# Altium footprint library COMBINED_PCB_LIB.PcbLib: 30 footprints (part 1 of 2)
Each footprint in its own frame and in the unit in brackets; x right, y up, seen from the top. Pads: shape width x height; smd on the part's side, far side on the other; paste and mask are expansions set on the pad; w line width, h text height; cw(c..) or ccw(c..) is an arc to the next point about the centre after c.
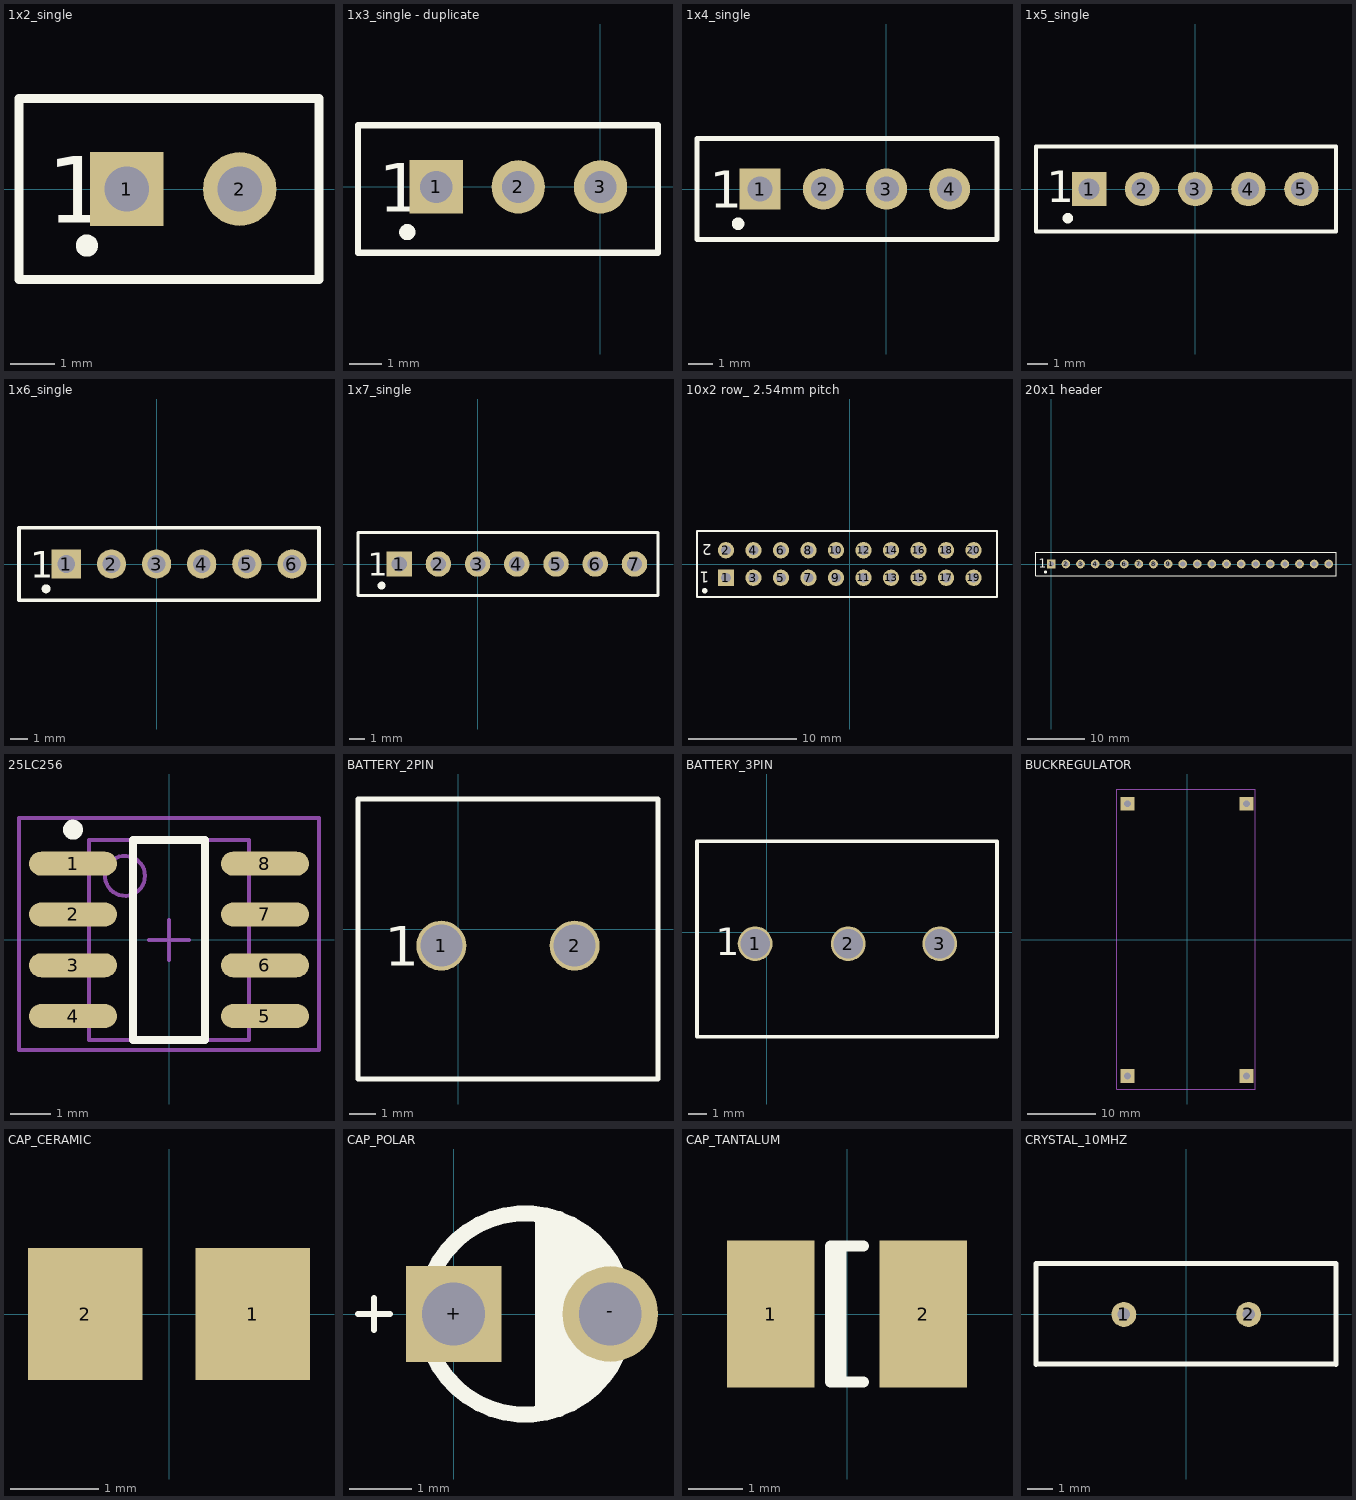
[diagram p0: the footprints below, top view; thin cyan lines are the x and y axes]

## 1x2_single [mm] "Connector; IDC, Low Profile Male Header, Thru-Hole; 10 Position; Vertical; Pitch 2.54 mm; Body 20.32 x 9.2 x 9.45 mm (LxWxH)"
height 9.45
pads (2):
  rect 1.65x1.65 hole 1: 1(-5.08,0)
  round 1.65 hole 1: 2(-2.54,0)
Top Overlay:
  circle w0.25: c-5.969,-1.27 r0.125
  lines w0.2: -7.493,-2.032 -0.762,-2.032 -0.762,2.032 -7.493,2.032 ; -7.493,-2 -7.493,2
  text "1" at -6.858,-0.762 h1.5

## 1x3_single - duplicate [mm] "Connector; IDC, Low Profile Male Header, Thru-Hole; 10 Position; Vertical; Pitch 2.54 mm; Body 20.32 x 9.2 x 9.45 mm (LxWxH)"
height 9.45
pads (3):
  rect 1.65x1.65 hole 1: 1(-5.08,0)
  round 1.65 hole 1: 2(-2.54,0) 3(0,0)
Top Overlay:
  circle w0.25: c-5.969,-1.397 r0.125
  lines w0.2: -7.493,-2.032 1.778,-2.032 ; -7.493,-2 -7.493,1.905 1.778,1.905 1.778,-2
  text "1" at -6.858,-0.762 h1.5

## 1x4_single [mm] "Connector; IDC, Low Profile Male Header, Thru-Hole; 10 Position; Vertical; Pitch 2.54 mm; Body 20.32 x 9.2 x 9.45 mm (LxWxH)"
height 9.45
pads (4):
  rect 1.65x1.65 hole 1: 1(-5.08,0)
  round 1.65 hole 1: 2(-2.54,0) 3(0,0) 4(2.54,0)
Top Overlay:
  circle w0.25: c-5.969,-1.397 r0.127
  lines w0.2: -7.62,-2.032 4.445,-2.032 4.445,2.032 -7.62,2.032 ; -7.62,-2 -7.62,2
  text "1" at -7.112,-0.762 h1.5

## 1x5_single [mm] "Connector; IDC, Low Profile Male Header, Thru-Hole; 10 Position; Vertical; Pitch 2.54 mm; Body 20.32 x 9.2 x 9.45 mm (LxWxH)"
height 9.45
pads (5):
  rect 1.65x1.65 hole 1: 1(-5.08,0)
  round 1.65 hole 1: 2(-2.54,0) 3(0,0) 4(2.54,0) 5(5.08,0)
Top Overlay:
  circle w0.25: c-6.096,-1.397 r0.125
  lines w0.2: -7.62,-2.032 6.731,-2.032 6.731,2.032 -7.62,2.032 ; -7.62,-2 -7.62,2
  text "1" at -7.112,-0.635 h1.5

## 1x6_single [mm] "Connector; IDC, Low Profile Male Header, Thru-Hole; 10 Position; Vertical; Pitch 2.54 mm; Body 20.32 x 9.2 x 9.45 mm (LxWxH)"
height 9.45
pads (6):
  rect 1.65x1.65 hole 1: 1(-5.08,0)
  round 1.65 hole 1: 2(-2.54,0) 3(0,0) 4(2.54,0) 5(5.08,0) 6(7.62,0)
Top Overlay:
  circle w0.25: c-6.223,-1.397 r0.127
  lines w0.2: -7.747,-2.032 9.144,-2.032 9.144,2.032 -7.747,2.032 ; -7.747,-2 -7.747,2
  text "1" at -7.112,-0.762 h1.5

## 1x7_single [mm] "Connector; IDC, Low Profile Male Header, Thru-Hole; 10 Position; Vertical; Pitch 2.54 mm; Body 20.32 x 9.2 x 9.45 mm (LxWxH)"
height 9.45
pads (7):
  rect 1.65x1.65 hole 1: 1(-5.08,0)
  round 1.65 hole 1: 2(-2.54,0) 3(0,0) 4(2.54,0) 5(5.08,0) 6(7.62,0) 7(10.16,0)
Top Overlay:
  circle w0.25: c-6.223,-1.397 r0.127
  lines w0.2: -7.747,-2.032 11.684,-2.032 11.684,2.032 -7.747,2.032 ; -7.747,-2 -7.747,2
  text "1" at -7.112,-0.762 h1.5

## 10x2 row_ 2.54mm pitch [mm] "Connector; IDC, PCB Transition - 2 Rows, Thru-Hole; 34 Position; Vertical; Pitch 2.54 mm; dual row"
height 7.45
pads (20):
  rect 1.5x1.5 hole 0.9: 1(-11.43,-1.27)
  round 1.5 hole 0.9: 2(-11.43,1.27) 3(-8.89,-1.27) 4(-8.89,1.27) 5(-6.35,-1.27) 6(-6.35,1.27) 7(-3.81,-1.27) 8(-3.81,1.27) 9(-1.27,-1.27) 10(-1.27,1.27) 11(1.27,-1.27) 12(1.27,1.27) 13(3.81,-1.27) 14(3.81,1.27) 15(6.35,-1.27) 16(6.35,1.27) 17(8.89,-1.27) 18(8.89,1.27) 19(11.43,-1.27) 20(11.43,1.27)
Top Overlay:
  circle w0.25: c-13.386,-2.464 r0.125
  lines w0.2: -14.097,-3.05 13.589,-3.05 13.589,3.05 -14.097,3.05 -14.097,-3.05
  text "1" at -12.979,-0.737 h1
  text "2" at -12.751,1.829 h1

## 20x1 header [mm] "Connector; Header; 20 Position"
pads (20):
  rect 1.5x1.5 hole 0.9: 1(0,0)
  round 1.5 hole 0.9: 2(2.54,0) 3(5.08,0) 4(7.62,0) 5(10.16,0) 6(12.7,0) 7(15.24,0) 8(17.78,0) 9(20.32,0) 10(22.86,0) 11(25.4,0) 12(27.94,0) 13(30.48,0) 14(33.02,0) 15(35.56,0) 16(38.1,0) 17(40.64,0) 18(43.18,0) 19(45.72,0) 20(48.26,0)
Top Overlay:
  circle w0.254: c-1.016,-1.397 r0.127
  lines w0.2: 49.53,-2.032 -2.667,-2.032 -2.667,2.032 49.53,2.032 ; 49.53,-2 49.53,2
  text "1" at -2.159,-0.635 h1.5

## 25LC256 [mm] "SOIC, 8-Leads, Body 4.9x3.8mm, Pitch 1.27mm, IPC Medium Density"
height 1.75
pads (8):
  oval 2.2x0.6 smd: 1(-2.4,1.905) 2(-2.4,0.635) 3(-2.4,-0.635) 4(-2.4,-1.905) 5(2.4,-1.905) 6(2.4,-0.635) 7(2.4,0.635) 8(2.4,1.905)
Top Overlay:
  circle w0.25: c-2.4,2.755 r0.125
  lines w0.2: -0.9,-2.5 0.9,-2.5 0.9,2.5 -0.9,2.5 -0.9,-2.5
Mechanical 13:
  circle w0.1: c-1.1,1.6 r0.5
  lines w0.1: -2,-2.5 2,-2.5 2,2.5 -2,2.5 -2,-2.5
Mechanical 15:
  lines w0.1: -0.5,0 0.5,0 ; 0,-0.5 0,0.5 ; -3.75,-2.75 3.75,-2.75 3.75,3.048 -3.75,3.048 -3.75,-2.75
3D body: height 1.75, standoff 0, extent -2,-2.5 2,2.5

## BATTERY_2PIN [mm] "Through Hole Power Connector 5.54X6.5 _ 6A"
height 19
pads (2):
  round 1.9 hole 1.6: 1(-0.635,-0.635) 2(4.445,-0.635)
Top Overlay:
  lines w0.2: -3.81,-5.715 -3.81,4.953 7.62,4.953 7.62,-5.715 -3.81,-5.715
  text "1" at -2.794,-1.397 h1.5

## BATTERY_3PIN [mm] "Through Hole Power Connector 5.54X6.5 _ 6A"
height 19
pads (3):
  round 1.9 hole 1.6: 1(-0.635,-0.635) 2(4.445,-0.635) 3(9.449,-0.635)
Top Overlay:
  lines w0.2: -3.81,-5.715 12.573,-5.715 12.573,4.953 -3.81,4.953 -3.81,-5.715
  text "1" at -2.794,-1.27 h1.5

## BUCKREGULATOR [mm] "43mm length,20 mm width"
height 0.9
pads (4):
  rect 2.008x2.008 hole 1: Vin+(8.65,19.825) Vin-(-8.65,19.825) Vout+(8.65,-19.825) Vout-(-8.65,-19.825)
Mechanical 1:
  lines w0.114: 9.906,-21.715 -10.243,-21.715 -10.243,21.971 9.906,21.971 ; 9.95,-21.715 9.95,21.971
3D body: height 5, standoff 0, extent -10.243,-21.715 9.95,21.971

## CAP_CERAMIC [mm] "Chip Capacitor; Body 2.0 x 1.2 mm (LxW typ)"
height 1.3
pads (2):
  rect 1.3x1.5 smd: 1(0.95,0) 2(-0.95,0)

## CAP_POLAR [mil] "1uF"
pads (2):
  rect 60x60 hole 39.37: +(0,0)
  round 60 hole 39.37: -(98.43,0)
Top Overlay:
  circle w10: c45,0 r63.25
  rectangle: 75,-35 95,45
  rectangle: 60,-55 80,55
  lines w3.94: -60,0 -40,0 ; -50,-10 -50,10
  lines w7.87: 55,-60 55,60 ; 60,-60 60,55
  lines w10: 59.81,-47.95 ccw(c55,0) 61.74,47.72

## CAP_TANTALUM [mm] "Chip Capacitor; Body 3.2 x 2.5 mm (LxW typ)"
height 1.7
pads (2):
  rect 1.6x2.7 smd: 1(-1.4,0) 2(1.4,0)
Top Overlay:
  lines w0.2: -0.11,-1.25 -0.11,1.25 ; 0.3,-1.25 -0.3,-1.25 -0.3,1.25 0.3,1.25

## CRYSTAL_10MHZ [mm] "0.413\" L x 0.183\" W (10.50mm x 4.65mm)"
height 3.5
pads (2):
  round 1 hole 0.5: 1(-2.5,0) 2(2.5,0)
Top Overlay:
  lines w0.2: -6.02,-2 -6.02,2.032 ; -6,-1.981 6,-1.981 ; -6,2.032 6,2.032 ; 5.994,-2 5.994,2.032